# Altium integrated library TI Power Management Battery Management.IntLib: 949 symbols (part 51 of 62)
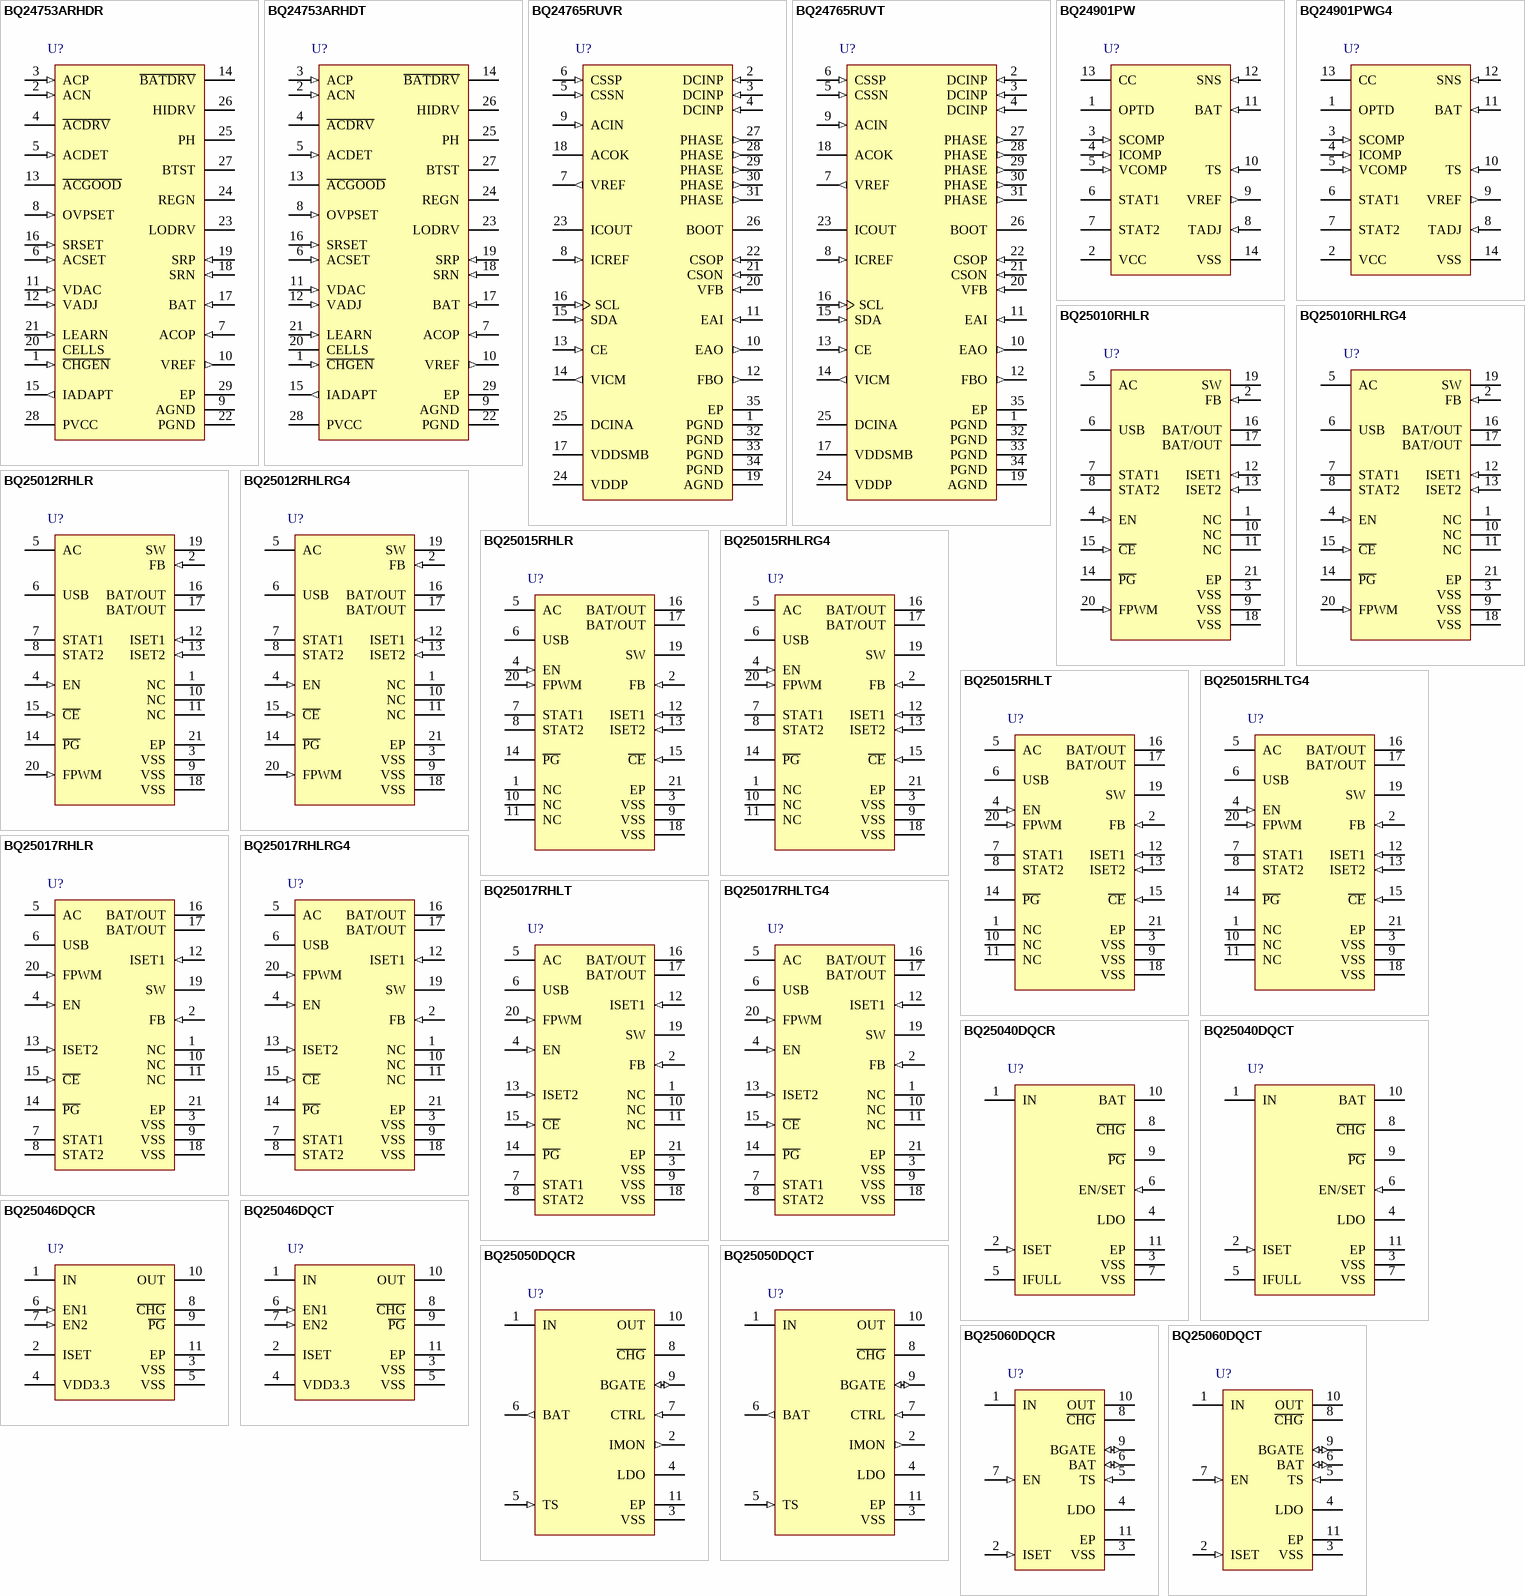
[diagram p84: symbols BQ24753ARHDR to BQ25060DQCT]

## BQ24765RUVR
designator U?
SMBus Controlled Battery Charger with Integrated FETs, 7 V, -40 to 155 degC, 34-pin VQFN (RUV), Green (RoHS & no Sb/Br); PartNumber: BQ24765RUVR; Manufacturer: Texas Instruments; Lead Acid: N; SubFamily: Battery Charge Management; Vin(Min)(V): 7; DatasheetVersion: SLUS999; PackageVersion: revA, Mar-2008; PackageReference: RUV34-5550X2050TP; PackageDescription: 34-Leads Plastic Quad Flatpack No-Lead, 3.5 x 7 x 0.9 mm Body, 0.5 mm Pitch, Exposed Pad; Supplier 1: Digi-Key; Supplier Part Number 1: BQ24765RUVR-ND; Supplier 2: Newark; Supplier Part Number 2: 55R2442; Supplier 3: Mouser; Supplier Part Number 3: 595-BQ24765RUVR; Eco-Plan: Green (RoHS & no Sb/Br); Li-Ion: N; Li-Polymer: N; NiCd: N; NiMH: N; Over Voltage Protection: N; Mounting Technology: Surface Mount; Code_JEDEC: MO-220; ComponentLink1Description: Datasheet; ComponentLink1URL: http://www.ti.com/general/docs/lit/getliterature.tsp?genericPartNumber=BQ24765&fileType=pdf
footprint RUV34-5550X2050TP (QFN, 34-Leads, Body 3.5x7mm, Pitch 0.5mm, Thermal Pad 2.05x5.55mm)
pins: 1 PGND (power) "Power ground. Connection to source of integrated low-side power MOSFET. On PCB layout, connect to ground connection of input and output capacitors of the charger. Only connect to AGND through the power-pad underneath the IC.", 2 DCINP (in) "High current input for IC power positive supply, and connection to drain of high-side power MOSFET. Place two 10uF ceramic capacitors from DCINP to PGND pin close to the IC.", 3 DCINP (in) "High current input for IC power positive supply, and connection to drain of high-side power MOSFET. Place two 10uF ceramic capacitors from DCINP to PGND pin close to the IC.", 4 DCINP (in) "High current input for IC power positive supply, and connection to drain of high-side power MOSFET. Place two 10uF ceramic capacitors from DCINP to PGND pin close to the IC.", 5 CSSN (in) "Adapter current sense resistor, negative input. An optional 0.1-uF ceramic capacitor is placed from CSSN pin to AGND for common-mode filtering. A 0.1-uF ceramic capacitor is placed from CSSN to CSSP to provide (See Datasheet)", 6 CSSP (in) "Adapter current sense resistor, positive input. A 0.1-uF ceramic capacitor is placed from CSSP pin to AGND for common-mode filtering. A 0.1-uF ceramic capacitor is placed from CSSN to CSSP to provide differential-mode (See Datasheet)", 7 VREF (out) "3.3V regulated voltage output. Place a 1uF ceramic capacitor from VREF to AGND pin close to the IC. This voltage could be used for programming the ICREF threshold. VREF can directly connect to VDDSMB as SMBus supply, or (See Datasheet)", 8 ICREF (in) "Low power voltage set input. Connect a resistor divider from VREF to ICREF, and AGND to program the reference for the LOPWR comparator. The ICREF pin voltage is compared to the VICM pin voltage and the logic output is given (See Datasheet)", 9 ACIN (in) "Adapter detected voltage set input. Program the adapter detect threshold by connecting a resistor divider from adapter input to ACIN pin to AGND pin. ACOK open-drain output is pulled high and charge is allowed when ACIN pin (See Datasheet)", 10 EAO (out) "Error Amplifier Output for compensation. Connect the feedback compensation components from EAO to EAI. Typically, a capacitor in parallel with a series resistor and capacitor. This node is internally compared to the PWM (See Datasheet)", 11 EAI (in) "Error Amplifier Input for compensation. Connect the feedback compensation components from EAI to EAO. Connect the input compensation from FBO to EAI.", 12 FBO (out) "Feedback Output for compensation. Connect the input compensation from FBO to EAI. Typically, a resistor in parallel with a series resistor and capacitor.", 13 CE (in) "Charge enable active-high logic input. HI enables charge. LO disables charge. Pull up CE using 10kOhm resistor or connect directly to VREF to enable charger.", 14 VICM (out) "Adapter current sense amplifier output. VICM voltage is 20 times the differential voltage across CSSP-CSSN. Place a 100pF (max) or less ceramic decoupling capacitor from VICM to AGND.", 15 SDA (in) "SMBus Data input. Connect to SMBus data line from the host controller. A 10-kohm pull-up resistor to the host controller power rail is needed.", 16 SCL (in) "SMBus Clock input. Connect to SMBus clock line from the host controller. A 10-kohm pull-up resistor to the host controller power rail is needed.", 17 VDDSMB (power) "Input voltage for SMBus logic. Connect a 3.3V always supply rail, or 5V always rail to VDDSMB pin. Connect a 0.1uF ceramic capacitor from VDDSMB to AGND for decoupling.", 18 ACOK (oc) "Valid adapter active-high detect logic open-drain output. Pulled HI when Input voltage is above ACIN programmed threshold and DCINA is above UVLO threshold. Connect a 10-kohm pull-up resistor from ACOK pin to pull-up supply (See Datasheet)", 19 AGND (power) "Analog Ground. On PCB layout, connect to the analog ground plane, and only connect to PGND through the power-pad underneath the IC.", 20 VFB (in) "Battery voltage remote sense. Directly connect a Kelvin sense trace from the battery pack positive terminal to the VFB pin to accurately sense the battery pack voltage. Place a 0.1-uF capacitor from VFB to AGND close to the (See Datasheet)", 21 CSON (in) "Charge current sense resistor, negative input. An optional 0.1-uF ceramic capacitor is placed from CSON pin to AGND for common-mode filtering. A 0.1-uF ceramic capacitor is placed from CSON to CSOP to provide (See Datasheet)", 22 CSOP (in) "Charge current sense resistor, positive input. A 0.1-uF ceramic capacitor is placed from CSOP pin to AGND for common mode filtering. A 0.1-uF ceramic capacitor is placed from CSON to CSOP to provide differential-mode (See Datasheet)", 23 ICOUT (oc) "Low power mode detect active-high open-drain logic output. Place a 10kohm pull-up resistor from ICOUT pin to the pull-up voltage rail. Place a positive feedback resistor from ICOUT pin to ICREF pin for programming hysteresis.(See Datasheet)", 24 VDDP (power) "PWM low side driver positive 6V supply output. Connect a 1uF ceramic capacitor from VDDP to PGND pin, close to the IC. Use for high-side driver bootstrap voltage by connecting a small signal Schottky diode from VDDP to BOOT.", 25 DCINA (power) "Analog sense of IC power positive supply for internal reference bias circuit. Connect directly to adapter input, or to diode-OR point of adapter and battery. Place a 20ohm and 0.5uF ceramic capacitor filter from adapter to (See Datasheet)", 26 BOOT (power) "PWM high side driver positive supply. Connect a 0.1uF bootstrap ceramic capacitor from BOOT to PHASE. Connect a small bootstrap Schottky diode from VDDP to BOOT.", 27 PHASE (out) "Phase switching node (junction of the integrated high-side power MOSFET source and the integrated low-side power MOSFET drain). Connect to the output inductor. Connect the 0.1uF bootstrap ceramic capacitor from PHASE to BOOT.", 28 PHASE (out) "Phase switching node (junction of the integrated high-side power MOSFET source and the integrated low-side power MOSFET drain). Connect to the output inductor. Connect the 0.1uF bootstrap ceramic capacitor from PHASE to BOOT.", 29 PHASE (out) "Phase switching node (junction of the integrated high-side power MOSFET source and the integrated low-side power MOSFET drain). Connect to the output inductor. Connect the 0.1uF bootstrap ceramic capacitor from PHASE to BOOT.", 30 PHASE (out) "Phase switching node (junction of the integrated high-side power MOSFET source and the integrated low-side power MOSFET drain). Connect to the output inductor. Connect the 0.1uF bootstrap ceramic capacitor from PHASE to BOOT.", 31 PHASE (out) "Phase switching node (junction of the integrated high-side power MOSFET source and the integrated low-side power MOSFET drain). Connect to the output inductor. Connect the 0.1uF bootstrap ceramic capacitor from PHASE to BOOT.", 32 PGND (power) "Power ground. Connection to source of integrated low-side power MOSFET. On PCB layout, connect to ground connection of in put and out put capacitors of the charger. Only connect to AGND through the power-pad underneath the (See Datasheet)", 33 PGND (power) "Power ground. Connection to source of integrated low-side power MOSFET. On PCB layout, connect to ground connection of in put and out put capacitors of the charger. Only connect to AGND through the power-pad underneath the (See Datasheet)", 34 PGND (power) "Power ground. Connection to source of integrated low-side power MOSFET. On PCB layout, connect to ground connection of in put and out put capacitors of the charger. Only connect to AGND through the power-pad underneath the (See Datasheet)", 35 EP (power) "Exposed pad beneath the IC. AGND and PGND star-connected only at the Power Pad plane. Always solder Power Pad to the board, and have vias on the Power Pad plane connecting to AGND and PGND planes. It also serves as a thermal (See Datasheet)"

## BQ24765RUVT
designator U?
SMBus Controlled Battery Charger with Integrated FETs, 7 V, -40 to 155 degC, 34-pin VQFN (RUV), Green (RoHS & no Sb/Br); PartNumber: BQ24765RUVT; Manufacturer: Texas Instruments; Lead Acid: N; SubFamily: Battery Charge Management; Vin(Min)(V): 7; DatasheetVersion: SLUS999; PackageVersion: revA, Mar-2008; PackageReference: RUV34-5550X2050TP; PackageDescription: 34-Leads Plastic Quad Flatpack No-Lead, 3.5 x 7 x 0.9 mm Body, 0.5 mm Pitch, Exposed Pad; Supplier 1: Digi-Key; Supplier Part Number 1: 296-25460-2-ND; Supplier 2: Digi-Key; Supplier Part Number 2: 296-25460-1-ND; Supplier 3: Digi-Key; Supplier Part Number 3: 296-25460-6-ND; Supplier 4: Newark; Supplier Part Number 4: 55R2443; Supplier 5: Mouser; Supplier Part Number 5: 595-BQ24765RUVT; Eco-Plan: Green (RoHS & no Sb/Br); Li-Ion: N; Li-Polymer: N; NiCd: N; NiMH: N; Over Voltage Protection: N; Mounting Technology: Surface Mount; Code_JEDEC: MO-220; ComponentLink1Description: Datasheet; ComponentLink1URL: http://www.ti.com/general/docs/lit/getliterature.tsp?genericPartNumber=BQ24765&fileType=pdf
footprint RUV34-5550X2050TP (QFN, 34-Leads, Body 3.5x7mm, Pitch 0.5mm, Thermal Pad 2.05x5.55mm)
pins: 1 PGND (power) "Power ground. Connection to source of integrated low-side power MOSFET. On PCB layout, connect to ground connection of input and output capacitors of the charger. Only connect to AGND through the power-pad underneath the IC.", 2 DCINP (in) "High current input for IC power positive supply, and connection to drain of high-side power MOSFET. Place two 10uF ceramic capacitors from DCINP to PGND pin close to the IC.", 3 DCINP (in) "High current input for IC power positive supply, and connection to drain of high-side power MOSFET. Place two 10uF ceramic capacitors from DCINP to PGND pin close to the IC.", 4 DCINP (in) "High current input for IC power positive supply, and connection to drain of high-side power MOSFET. Place two 10uF ceramic capacitors from DCINP to PGND pin close to the IC.", 5 CSSN (in) "Adapter current sense resistor, negative input. An optional 0.1-uF ceramic capacitor is placed from CSSN pin to AGND for common-mode filtering. A 0.1-uF ceramic capacitor is placed from CSSN to CSSP to provide (See Datasheet)", 6 CSSP (in) "Adapter current sense resistor, positive input. A 0.1-uF ceramic capacitor is placed from CSSP pin to AGND for common-mode filtering. A 0.1-uF ceramic capacitor is placed from CSSN to CSSP to provide differential-mode (See Datasheet)", 7 VREF (out) "3.3V regulated voltage output. Place a 1uF ceramic capacitor from VREF to AGND pin close to the IC. This voltage could be used for programming the ICREF threshold. VREF can directly connect to VDDSMB as SMBus supply, or (See Datasheet)", 8 ICREF (in) "Low power voltage set input. Connect a resistor divider from VREF to ICREF, and AGND to program the reference for the LOPWR comparator. The ICREF pin voltage is compared to the VICM pin voltage and the logic output is given (See Datasheet)", 9 ACIN (in) "Adapter detected voltage set input. Program the adapter detect threshold by connecting a resistor divider from adapter input to ACIN pin to AGND pin. ACOK open-drain output is pulled high and charge is allowed when ACIN pin (See Datasheet)", 10 EAO (out) "Error Amplifier Output for compensation. Connect the feedback compensation components from EAO to EAI. Typically, a capacitor in parallel with a series resistor and capacitor. This node is internally compared to the PWM (See Datasheet)", 11 EAI (in) "Error Amplifier Input for compensation. Connect the feedback compensation components from EAI to EAO. Connect the input compensation from FBO to EAI.", 12 FBO (out) "Feedback Output for compensation. Connect the input compensation from FBO to EAI. Typically, a resistor in parallel with a series resistor and capacitor.", 13 CE (in) "Charge enable active-high logic input. HI enables charge. LO disables charge. Pull up CE using 10kOhm resistor or connect directly to VREF to enable charger.", 14 VICM (out) "Adapter current sense amplifier output. VICM voltage is 20 times the differential voltage across CSSP-CSSN. Place a 100pF (max) or less ceramic decoupling capacitor from VICM to AGND.", 15 SDA (in) "SMBus Data input. Connect to SMBus data line from the host controller. A 10-kohm pull-up resistor to the host controller power rail is needed.", 16 SCL (in) "SMBus Clock input. Connect to SMBus clock line from the host controller. A 10-kohm pull-up resistor to the host controller power rail is needed.", 17 VDDSMB (power) "Input voltage for SMBus logic. Connect a 3.3V always supply rail, or 5V always rail to VDDSMB pin. Connect a 0.1uF ceramic capacitor from VDDSMB to AGND for decoupling.", 18 ACOK (oc) "Valid adapter active-high detect logic open-drain output. Pulled HI when Input voltage is above ACIN programmed threshold and DCINA is above UVLO threshold. Connect a 10-kohm pull-up resistor from ACOK pin to pull-up supply (See Datasheet)", 19 AGND (power) "Analog Ground. On PCB layout, connect to the analog ground plane, and only connect to PGND through the power-pad underneath the IC.", 20 VFB (in) "Battery voltage remote sense. Directly connect a Kelvin sense trace from the battery pack positive terminal to the VFB pin to accurately sense the battery pack voltage. Place a 0.1-uF capacitor from VFB to AGND close to the (See Datasheet)", 21 CSON (in) "Charge current sense resistor, negative input. An optional 0.1-uF ceramic capacitor is placed from CSON pin to AGND for common-mode filtering. A 0.1-uF ceramic capacitor is placed from CSON to CSOP to provide (See Datasheet)", 22 CSOP (in) "Charge current sense resistor, positive input. A 0.1-uF ceramic capacitor is placed from CSOP pin to AGND for common mode filtering. A 0.1-uF ceramic capacitor is placed from CSON to CSOP to provide differential-mode (See Datasheet)", 23 ICOUT (oc) "Low power mode detect active-high open-drain logic output. Place a 10kohm pull-up resistor from ICOUT pin to the pull-up voltage rail. Place a positive feedback resistor from ICOUT pin to ICREF pin for programming hysteresis.(See Datasheet)", 24 VDDP (power) "PWM low side driver positive 6V supply output. Connect a 1uF ceramic capacitor from VDDP to PGND pin, close to the IC. Use for high-side driver bootstrap voltage by connecting a small signal Schottky diode from VDDP to BOOT.", 25 DCINA (power) "Analog sense of IC power positive supply for internal reference bias circuit. Connect directly to adapter input, or to diode-OR point of adapter and battery. Place a 20ohm and 0.5uF ceramic capacitor filter from adapter to (See Datasheet)", 26 BOOT (power) "PWM high side driver positive supply. Connect a 0.1uF bootstrap ceramic capacitor from BOOT to PHASE. Connect a small bootstrap Schottky diode from VDDP to BOOT.", 27 PHASE (out) "Phase switching node (junction of the integrated high-side power MOSFET source and the integrated low-side power MOSFET drain). Connect to the output inductor. Connect the 0.1uF bootstrap ceramic capacitor from PHASE to BOOT.", 28 PHASE (out) "Phase switching node (junction of the integrated high-side power MOSFET source and the integrated low-side power MOSFET drain). Connect to the output inductor. Connect the 0.1uF bootstrap ceramic capacitor from PHASE to BOOT.", 29 PHASE (out) "Phase switching node (junction of the integrated high-side power MOSFET source and the integrated low-side power MOSFET drain). Connect to the output inductor. Connect the 0.1uF bootstrap ceramic capacitor from PHASE to BOOT.", 30 PHASE (out) "Phase switching node (junction of the integrated high-side power MOSFET source and the integrated low-side power MOSFET drain). Connect to the output inductor. Connect the 0.1uF bootstrap ceramic capacitor from PHASE to BOOT.", 31 PHASE (out) "Phase switching node (junction of the integrated high-side power MOSFET source and the integrated low-side power MOSFET drain). Connect to the output inductor. Connect the 0.1uF bootstrap ceramic capacitor from PHASE to BOOT.", 32 PGND (power) "Power ground. Connection to source of integrated low-side power MOSFET. On PCB layout, connect to ground connection of in put and out put capacitors of the charger. Only connect to AGND through the power-pad underneath the (See Datasheet)", 33 PGND (power) "Power ground. Connection to source of integrated low-side power MOSFET. On PCB layout, connect to ground connection of in put and out put capacitors of the charger. Only connect to AGND through the power-pad underneath the (See Datasheet)", 34 PGND (power) "Power ground. Connection to source of integrated low-side power MOSFET. On PCB layout, connect to ground connection of in put and out put capacitors of the charger. Only connect to AGND through the power-pad underneath the (See Datasheet)", 35 EP (power) "Exposed pad beneath the IC. AGND and PGND star-connected only at the Power Pad plane. Always solder Power Pad to the board, and have vias on the Power Pad plane connecting to AGND and PGND planes. It also serves as a thermal (See Datasheet)"

## BQ24901PW
designator U?
1-Cell Li-Ion Charger for Offline Applications (Primary-side Control) in TSSOP-14, 3 V, -20 to 85 degC, 14-pin TSSOP (PW); PartNumber: BQ24901PW; Manufacturer: Texas Instruments; Lead Acid: N; Li-Ion: Y; SubFamily: Battery Charge Management; Vin(Min)(V): 3; DatasheetVersion: SLUS527; PackageVersion: revG, Feb-2011; PackageReference: PW14; PackageDescription: 14-Pin Thin Small Outline Package 0.65 mm Pitch; Supplier 1: Digi-Key; Supplier Part Number 1: 296-14073-5-ND; Supplier 2: Farnell; Supplier Part Number 2: 1647902; Supplier 3: Newark; Supplier Part Number 3: 20H2738; Supplier 4: Mouser; Supplier Part Number 4: 595-BQ24901PW; Li-Polymer: Y; NiCd: N; NiMH: N; Over Voltage Protection: N; Mounting Technology: Surface Mount; Code_JEDEC: MO-153; ComponentLink1Description: Datasheet; ComponentLink1URL: http://www.ti.com/general/docs/lit/getliterature.tsp?genericPartNumber=BQ24901&fileType=pdf
footprint PW14_N (TSOP, 14-Leads, Body 5x4.4mm, Pitch 0.65mm, IPC Medium Density)
footprint PW14_L (TSOP, 14-Leads, Body 5x4.4mm, Pitch 0.65mm, IPC High Density)
footprint PW14_M (TSOP, 14-Leads, Body 5x4.4mm, Pitch 0.65mm, IPC Low Density)
pins: 1 OPTD (oc) "Optocoupler driver output. This open-collector output is used to provide feedback to the primary side by driving an external optocoupler.", 2 VCC (power) "VCC supply input.", 3 SCOMP (in) "Supply loop compensation. This is the compensation for the VCC supply regulation loop.", 4 ICOMP (in) "Current loop compensation. This is the compensation for the fast charge current regulation loop.", 5 VCOMP (in) "Voltage loop compensation. This is the compensation for the battery regulation loop.", 6 STAT1 (oc) "Charge status output 1 (open drain)", 7 STAT2 (oc) "Charge status output 2 (open drain)", 8 TADJ (in) "Termination adjust. This input is used to set the minimum current termination level during voltage regulation phase.", 9 VREF (out) "Voltage reference output. This buffered output provides the internal bandgap voltage.", 10 TS (in) "Temperature sense Input. Input for an external battery temperature monitoring.", 11 BAT (in) "Battery voltage sense input. This input is tied directly to the positive side of the battery pack.", 12 SNS (in) "Current sense input. Battery current is sensed via the voltage developed on this pin by an external sense resistor.", 13 CC (oc) "Charge control output. CC is an open-drain pulldown output that is used to drive an external pass transistor for charge current and voltage control.", 14 VSS (power) "Ground input."

## BQ24901PWG4
designator U?
1-Cell Li-Ion Charger for Offline Applications (Primary-side Control) in TSSOP-14, 3 V, -20 to 85 degC, 14-pin TSSOP (PW); PartNumber: BQ24901PWG4; Manufacturer: Texas Instruments; Lead Acid: N; Li-Ion: Y; SubFamily: Battery Charge Management; Vin(Min)(V): 3; DatasheetVersion: SLUS527; PackageVersion: revG, Feb-2011; PackageReference: PW14; PackageDescription: 14-Pin Thin Small Outline Package 0.65 mm Pitch; Supplier 1: Digi-Key; Supplier Part Number 1: BQ24901PWG4-ND; Supplier 2: Newark; Supplier Part Number 2: 02M9374; Supplier 3: Mouser; Supplier Part Number 3: 595-BQ24901PWG4; Li-Polymer: Y; NiCd: N; NiMH: N; Over Voltage Protection: N; Mounting Technology: Surface Mount; Code_JEDEC: MO-153; ComponentLink1Description: Datasheet; ComponentLink1URL: http://www.ti.com/general/docs/lit/getliterature.tsp?genericPartNumber=BQ24901&fileType=pdf
footprint PW14_N (TSOP, 14-Leads, Body 5x4.4mm, Pitch 0.65mm, IPC Medium Density)
footprint PW14_L (TSOP, 14-Leads, Body 5x4.4mm, Pitch 0.65mm, IPC High Density)
footprint PW14_M (TSOP, 14-Leads, Body 5x4.4mm, Pitch 0.65mm, IPC Low Density)
pins: 1 OPTD (oc) "Optocoupler driver output. This open-collector output is used to provide feedback to the primary side by driving an external optocoupler.", 2 VCC (power) "VCC supply input.", 3 SCOMP (in) "Supply loop compensation. This is the compensation for the VCC supply regulation loop.", 4 ICOMP (in) "Current loop compensation. This is the compensation for the fast charge current regulation loop.", 5 VCOMP (in) "Voltage loop compensation. This is the compensation for the battery regulation loop.", 6 STAT1 (oc) "Charge status output 1 (open drain)", 7 STAT2 (oc) "Charge status output 2 (open drain)", 8 TADJ (in) "Termination adjust. This input is used to set the minimum current termination level during voltage regulation phase.", 9 VREF (out) "Voltage reference output. This buffered output provides the internal bandgap voltage.", 10 TS (in) "Temperature sense Input. Input for an external battery temperature monitoring.", 11 BAT (in) "Battery voltage sense input. This input is tied directly to the positive side of the battery pack.", 12 SNS (in) "Current sense input. Battery current is sensed via the voltage developed on this pin by an external sense resistor.", 13 CC (oc) "Charge control output. CC is an open-drain pulldown output that is used to drive an external pass transistor for charge current and voltage control.", 14 VSS (power) "Ground input."

## BQ25010RHLR
designator U?
500 mA Li-Ion Charger with Integrated 150 mA Synchronous Buck Converter, Output Adjustable, 4.5 V, -40 to 85 degC, 20-pin QFN (RHL), Green (RoHS & no Sb/Br); PartNumber: BQ25010RHLR; Manufacturer: Texas Instruments; Lead Acid: N; Li-Ion: Y; SubFamily: Battery Charge Management; Vin(Min)(V): 4.5; DatasheetVersion: SLUS615B; PackageVersion: revJ, Dec-2011; PackageReference: RHL20-3050X2050TP; PackageDescription: 20-Leads Plastic Quad Flatpack No-Lead, 4.5 x 3.5 x 0.9 mm Body, 0.5 mm Pitch, Exposed Pad; Supplier 1: Digi-Key; Supplier Part Number 1: 296-17639-2-ND; Supplier 2: Digi-Key; Supplier Part Number 2: 296-17639-1-ND; Supplier 3: Digi-Key; Supplier Part Number 3: 296-17639-6-ND; Supplier 4: Newark; Supplier Part Number 4: 71J3427; Supplier 5: Mouser; Supplier Part Number 5: 595-BQ25010RHLR; Eco-Plan: Green (RoHS & no Sb/Br); Li-Polymer: N; NiCd: N; NiMH: N; Over Voltage Protection: N; Mounting Technology: Surface Mount; ComponentLink1Description: Datasheet; ComponentLink1URL: http://www.ti.com/general/docs/lit/getliterature.tsp?genericPartNumber=BQ25010&fileType=pdf
footprint RHL20-3050X2050TP (QFN, 20-Leads, Body 4.5x3.5mm, Pitch 0.5mm, Thermal Pad 3.05x2.05mm, TI Recommended)
pins: 1 NC "No connect. These pins must be left floating.", 2 FB (in) "Feedback pin for DC-DC converter", 3 VSS (power) "Ground Input. Also note that there is an internal electrical connection between the exposed thermal pad and VSS pins of the device. The exposed thermal pad must be connected to the same potential as the Vss pin on the (See Datasheet)", 4 EN (in) "Enable input for DC-DC converter (active high)", 5 AC (power) "Charge input voltage from AC adapter", 6 USB (power) "Charge input voltage from USB adapter", 7 STAT1 (oc) "Charge status output 1 (open-drain)", 8 STAT2 (oc) "Charge status output 2 (open-drain)", 9 VSS (power) "Ground Input. Also note that there is an internal electrical connection between the exposed thermal pad and VSS pins of the device. The exposed thermal pad must be connected to the same potential as the Vss pin on the (See Datasheet)", 10 NC "No connect. These pins must be left floating.", 11 NC "No connect. These pins must be left floating.", 12 ISET1 (in) "Charge current set point for AC input and precharge and taper set point for both AC and USB", 13 ISET2 (in) "Charge current set point for USB port (High = 500 mA, Low = 100 mA, High-Z = disable USB charge)", 14 ~{PG} (oc) "Power good status output (active low)", 15 ~{CE} (in) "Charge enable input (active low)", 16 BAT/OUT (power) "Charge current output", 17 BAT/OUT (power) "Battery input to DC-DC converter", 18 VSS (power) "Ground Input. Also note that there is an internal electrical connection between the exposed thermal pad and VSS pins of the device. The exposed thermal pad must be connected to the same potential as the Vss pin on the (See Datasheet)", 19 SW (power) "Phase node of the DC-DC converter", 20 FPWM (in) "PWM control input for the DC-DC converter. A high on FPWM = forced PWM mode. A low = power save mode.", 21 EP (power) "Exposed thermal pad"

## BQ25010RHLRG4
designator U?
500 mA Li-Ion Charger with Integrated 150 mA Synchronous Buck Converter, Output Adjustable, 4.5 V, -40 to 85 degC, 20-pin QFN (RHL), Green (RoHS & no Sb/Br); PartNumber: BQ25010RHLRG4; Manufacturer: Texas Instruments; Lead Acid: N; Li-Ion: Y; SubFamily: Battery Charge Management; Vin(Min)(V): 4.5; DatasheetVersion: SLUS615B; PackageVersion: revJ, Dec-2011; PackageReference: RHL20-3050X2050TP; PackageDescription: 20-Leads Plastic Quad Flatpack No-Lead, 4.5 x 3.5 x 0.9 mm Body, 0.5 mm Pitch, Exposed Pad; Supplier 1: Digi-Key; Supplier Part Number 1: BQ25010RHLRG4-ND; Supplier 2: Newark; Supplier Part Number 2: 24K4400; Supplier 3: Mouser; Supplier Part Number 3: 595-BQ25010RHLRG4; Eco-Plan: Green (RoHS & no Sb/Br); Li-Polymer: N; NiCd: N; NiMH: N; Over Voltage Protection: N; Mounting Technology: Surface Mount; ComponentLink1Description: Datasheet; ComponentLink1URL: http://www.ti.com/general/docs/lit/getliterature.tsp?genericPartNumber=BQ25010&fileType=pdf
footprint RHL20-3050X2050TP (QFN, 20-Leads, Body 4.5x3.5mm, Pitch 0.5mm, Thermal Pad 3.05x2.05mm, TI Recommended)
pins: 1 NC "No connect. These pins must be left floating.", 2 FB (in) "Feedback pin for DC-DC converter", 3 VSS (power) "Ground Input. Also note that there is an internal electrical connection between the exposed thermal pad and VSS pins of the device. The exposed thermal pad must be connected to the same potential as the Vss pin on the (See Datasheet)", 4 EN (in) "Enable input for DC-DC converter (active high)", 5 AC (power) "Charge input voltage from AC adapter", 6 USB (power) "Charge input voltage from USB adapter", 7 STAT1 (oc) "Charge status output 1 (open-drain)", 8 STAT2 (oc) "Charge status output 2 (open-drain)", 9 VSS (power) "Ground Input. Also note that there is an internal electrical connection between the exposed thermal pad and VSS pins of the device. The exposed thermal pad must be connected to the same potential as the Vss pin on the (See Datasheet)", 10 NC "No connect. These pins must be left floating.", 11 NC "No connect. These pins must be left floating.", 12 ISET1 (in) "Charge current set point for AC input and precharge and taper set point for both AC and USB", 13 ISET2 (in) "Charge current set point for USB port (High = 500 mA, Low = 100 mA, High-Z = disable USB charge)", 14 ~{PG} (oc) "Power good status output (active low)", 15 ~{CE} (in) "Charge enable input (active low)", 16 BAT/OUT (power) "Charge current output", 17 BAT/OUT (power) "Battery input to DC-DC converter", 18 VSS (power) "Ground Input. Also note that there is an internal electrical connection between the exposed thermal pad and VSS pins of the device. The exposed thermal pad must be connected to the same potential as the Vss pin on the (See Datasheet)", 19 SW (power) "Phase node of the DC-DC converter", 20 FPWM (in) "PWM control input for the DC-DC converter. A high on FPWM = forced PWM mode. A low = power save mode.", 21 EP (power) "Exposed thermal pad"

## BQ25012RHLR
designator U?
500 mA Li-Ion Charger with Integrated 150 mA Synchronous Buck Converter, Output 1.8 V, 4.5 V, -40 to 125 degC, 20-pin QFN (RHL), Green (RoHS & no Sb/Br); PartNumber: BQ25012RHLR; Manufacturer: Texas Instruments; Lead Acid: N; Li-Ion: Y; SubFamily: Battery Charge Management; Vin(Min)(V): 4.5; DatasheetVersion: SLUS615B; PackageVersion: revJ, Dec-2011; PackageReference: RHL20-3050X2050TP; PackageDescription: 20-Leads Plastic Quad Flatpack No-Lead, 4.5 x 3.5 x 0.9 mm Body, 0.5 mm Pitch, Exposed Pad; Supplier 1: Digi-Key; Supplier Part Number 1: 296-17804-2-ND; Supplier 2: Digi-Key; Supplier Part Number 2: 296-17804-1-ND; Supplier 3: Digi-Key; Supplier Part Number 3: 296-17804-6-ND; Supplier 4: Newark; Supplier Part Number 4: 24K4401; Supplier 5: Mouser; Supplier Part Number 5: 595-BQ25012RHLR; Eco-Plan: Green (RoHS & no Sb/Br); Li-Polymer: N; NiCd: N; NiMH: N; Over Voltage Protection: N; Mounting Technology: Surface Mount; ComponentLink1Description: Datasheet; ComponentLink1URL: http://www.ti.com/general/docs/lit/getliterature.tsp?genericPartNumber=BQ25012&fileType=pdf
footprint RHL20-3050X2050TP (QFN, 20-Leads, Body 4.5x3.5mm, Pitch 0.5mm, Thermal Pad 3.05x2.05mm, TI Recommended)
pins: 1 NC "No connect. These pins must be left floating.", 2 FB (in) "Feedback pin for DC-DC converter", 3 VSS (power) "Ground Input. Also note that there is an internal electrical connection between the exposed thermal pad and VSS pins of the device. The exposed thermal pad must be connected to the same potential as the Vss pin on the (See Datasheet)", 4 EN (in) "Enable input for DC-DC converter (active high)", 5 AC (power) "Charge input voltage from AC adapter", 6 USB (power) "Charge input voltage from USB adapter", 7 STAT1 (oc) "Charge status output 1 (open-drain)", 8 STAT2 (oc) "Charge status output 2 (open-drain)", 9 VSS (power) "Ground Input. Also note that there is an internal electrical connection between the exposed thermal pad and VSS pins of the device. The exposed thermal pad must be connected to the same potential as the Vss pin on the (See Datasheet)", 10 NC "No connect. These pins must be left floating.", 11 NC "No connect. These pins must be left floating.", 12 ISET1 (in) "Charge current set point for AC input and precharge and taper set point for both AC and USB", 13 ISET2 (in) "Charge current set point for USB port (High = 500 mA, Low = 100 mA, High-Z = disable USB charge)", 14 ~{PG} (oc) "Power good status output (active low)", 15 ~{CE} (in) "Charge enable input (active low)", 16 BAT/OUT (power) "Charge current output", 17 BAT/OUT (power) "Battery input to DC-DC converter", 18 VSS (power) "Ground Input. Also note that there is an internal electrical connection between the exposed thermal pad and VSS pins of the device. The exposed thermal pad must be connected to the same potential as the Vss pin on the (See Datasheet)", 19 SW (power) "Phase node of the DC-DC converter", 20 FPWM (in) "PWM control input for the DC-DC converter. A high on FPWM = forced PWM mode. A low = power save mode.", 21 EP (power) "Exposed thermal pad"

## BQ25012RHLRG4
designator U?
500 mA Li-Ion Charger with Integrated 150 mA Synchronous Buck Converter, Output 1.8 V, 4.5 V, -40 to 125 degC, 20-pin QFN (RHL), Green (RoHS & no Sb/Br); PartNumber: BQ25012RHLRG4; Manufacturer: Texas Instruments; Lead Acid: N; Li-Ion: Y; SubFamily: Battery Charge Management; Vin(Min)(V): 4.5; DatasheetVersion: SLUS615B; PackageVersion: revJ, Dec-2011; PackageReference: RHL20-3050X2050TP; PackageDescription: 20-Leads Plastic Quad Flatpack No-Lead, 4.5 x 3.5 x 0.9 mm Body, 0.5 mm Pitch, Exposed Pad; Supplier 1: Digi-Key; Supplier Part Number 1: BQ25012RHLRG4-ND; Supplier 2: Newark; Supplier Part Number 2: 24K4402; Supplier 3: Mouser; Supplier Part Number 3: 595-BQ25012RHLRG4; Eco-Plan: Green (RoHS & no Sb/Br); Li-Polymer: N; NiCd: N; NiMH: N; Over Voltage Protection: N; Mounting Technology: Surface Mount; ComponentLink1Description: Datasheet; ComponentLink1URL: http://www.ti.com/general/docs/lit/getliterature.tsp?genericPartNumber=BQ25012&fileType=pdf
footprint RHL20-3050X2050TP (QFN, 20-Leads, Body 4.5x3.5mm, Pitch 0.5mm, Thermal Pad 3.05x2.05mm, TI Recommended)
pins: 1 NC "No connect. These pins must be left floating.", 2 FB (in) "Feedback pin for DC-DC converter", 3 VSS (power) "Ground Input. Also note that there is an internal electrical connection between the exposed thermal pad and VSS pins of the device. The exposed thermal pad must be connected to the same potential as the Vss pin on the (See Datasheet)", 4 EN (in) "Enable input for DC-DC converter (active high)", 5 AC (power) "Charge input voltage from AC adapter", 6 USB (power) "Charge input voltage from USB adapter", 7 STAT1 (oc) "Charge status output 1 (open-drain)", 8 STAT2 (oc) "Charge status output 2 (open-drain)", 9 VSS (power) "Ground Input. Also note that there is an internal electrical connection between the exposed thermal pad and VSS pins of the device. The exposed thermal pad must be connected to the same potential as the Vss pin on the (See Datasheet)", 10 NC "No connect. These pins must be left floating.", 11 NC "No connect. These pins must be left floating.", 12 ISET1 (in) "Charge current set point for AC input and precharge and taper set point for both AC and USB", 13 ISET2 (in) "Charge current set point for USB port (High = 500 mA, Low = 100 mA, High-Z = disable USB charge)", 14 ~{PG} (oc) "Power good status output (active low)", 15 ~{CE} (in) "Charge enable input (active low)", 16 BAT/OUT (power) "Charge current output", 17 BAT/OUT (power) "Battery input to DC-DC converter", 18 VSS (power) "Ground Input. Also note that there is an internal electrical connection between the exposed thermal pad and VSS pins of the device. The exposed thermal pad must be connected to the same potential as the Vss pin on the (See Datasheet)", 19 SW (power) "Phase node of the DC-DC converter", 20 FPWM (in) "PWM control input for the DC-DC converter. A high on FPWM = forced PWM mode. A low = power save mode.", 21 EP (power) "Exposed thermal pad"

## BQ25015RHLR
designator U?
Dual Input Charger with Integrated Synchronous Buck Converter, Output Adjustable, 4.5 V, -40 to 125 degC, 20-pin QFN (RHL), Green (RoHS & no Sb/Br); PartNumber: BQ25015RHLR; Manufacturer: Texas Instruments; Lead Acid: N; Li-Ion: Y; SubFamily: Battery Charge Management; Vin(Min)(V): 4.5; DatasheetVersion: SLUS721A; PackageVersion: revJ, Dec-2011; PackageReference: RHL20-3050X2050TP; PackageDescription: 20-Leads Plastic Quad Flatpack No-Lead, 4.5 x 3.5 x 0.9 mm Body, 0.5 mm Pitch, Exposed Pad; Supplier 1: Digi-Key; Supplier Part Number 1: 296-21510-2-ND; Supplier 2: Digi-Key; Supplier Part Number 2: 296-21510-1-ND; Supplier 3: Digi-Key; Supplier Part Number 3: 296-21510-6-ND; Supplier 4: Newark; Supplier Part Number 4: 30M3428; Supplier 5: Mouser; Supplier Part Number 5: 595-BQ25015RHLR; Eco-Plan: Green (RoHS & no Sb/Br); Li-Polymer: Y; NiCd: N; NiMH: N; Over Voltage Protection: N; Mounting Technology: Surface Mount; ComponentLink1Description: Datasheet; ComponentLink1URL: http://www.ti.com/general/docs/lit/getliterature.tsp?genericPartNumber=BQ25015&fileType=pdf
footprint RHL20-3050X2050TP (QFN, 20-Leads, Body 4.5x3.5mm, Pitch 0.5mm, Thermal Pad 3.05x2.05mm, TI Recommended)
pins: 1 NC "No connect. These pins must be left floating.", 2 FB (in) "Feedback pin for DC-DC converter;connect to voltage divider for bq25015", 3 VSS (power) "Ground Input. Also note that there is an internal electrical connection between the exposed thermal pad and VSS pins of the device. The exposed thermal pad must be connected to the same potential as the Vss pin on the (See Datasheet)", 4 EN (in) "Enable input for DC-DC converter; EN=HIGH for device enable", 5 AC (power) "Charge input voltage from AC adapter, connect 10 uF capacitor to ground", 6 USB (power) "Charge input voltage from USB adapter; connect to 10 uF capacitor to ground", 7 STAT1 (oc) "Charge status output 1 (open-drain)", 8 STAT2 (oc) "Charge status output 2 (open-drain)", 9 VSS (power) "Ground Input. Also note that there is an internal electrical connection between the exposed thermal pad and VSS pins of the device. The exposed thermal pad must be connected to the same potential as the Vss pin on the (See Datasheet)", 10 NC "No connect. These pins must be left floating.", 11 NC "No connect. These pins must be left floating.", 12 ISET1 (in) "Charge current set point for AC input and precharge and taper set point for both AC and USB", 13 ISET2 (in) "Charge current set point for USB port (High = 500 mA, Low = 100 mA, High-Z = disable USB charge)", 14 ~{PG} (oc) "Power good status output (active low, open-drain)", 15 ~{CE} (in) "Charge enable input (active low)", 16 BAT/OUT (power) "Charge current output", 17 BAT/OUT (power) "Battery input to DC-DC converter", 18 VSS (power) "Ground Input. Also note that there is an internal electrical connection between the exposed thermal pad and VSS pins of the device. The exposed thermal pad must be connected to the same potential as the Vss pin on the (See Datasheet)", 19 SW (power) "Phase node of the DC/DC converter; connect series inductor and capacitor to ground", 20 FPWM (in) "PWM control input for the DC-DC converter. A high on FPWM = forced PWM mode. A low = power save mode.", 21 EP (power) "exposed pad"

## BQ25015RHLRG4
designator U?
Dual Input Charger with Integrated Synchronous Buck Converter, Output Adjustable, 4.5 V, -40 to 125 degC, 20-pin QFN (RHL), Green (RoHS & no Sb/Br); PartNumber: BQ25015RHLRG4; Manufacturer: Texas Instruments; Lead Acid: N; Li-Ion: Y; SubFamily: Battery Charge Management; Vin(Min)(V): 4.5; DatasheetVersion: SLUS721A; PackageVersion: revJ, Dec-2011; PackageReference: RHL20-3050X2050TP; PackageDescription: 20-Leads Plastic Quad Flatpack No-Lead, 4.5 x 3.5 x 0.9 mm Body, 0.5 mm Pitch, Exposed Pad; Supplier 1: Digi-Key; Supplier Part Number 1: BQ25015RHLRG4-ND; Supplier 2: Newark; Supplier Part Number 2: 30M3429; Supplier 3: Mouser; Supplier Part Number 3: 595-BQ25015RHLRG4; Eco-Plan: Green (RoHS & no Sb/Br); Li-Polymer: Y; NiCd: N; NiMH: N; Over Voltage Protection: N; Mounting Technology: Surface Mount; ComponentLink1Description: Datasheet; ComponentLink1URL: http://www.ti.com/general/docs/lit/getliterature.tsp?genericPartNumber=BQ25015&fileType=pdf
footprint RHL20-3050X2050TP (QFN, 20-Leads, Body 4.5x3.5mm, Pitch 0.5mm, Thermal Pad 3.05x2.05mm, TI Recommended)
pins: 1 NC "No connect. These pins must be left floating.", 2 FB (in) "Feedback pin for DC-DC converter;connect to voltage divider for bq25015", 3 VSS (power) "Ground Input. Also note that there is an internal electrical connection between the exposed thermal pad and VSS pins of the device. The exposed thermal pad must be connected to the same potential as the Vss pin on the (See Datasheet)", 4 EN (in) "Enable input for DC-DC converter; EN=HIGH for device enable", 5 AC (power) "Charge input voltage from AC adapter, connect 10 uF capacitor to ground", 6 USB (power) "Charge input voltage from USB adapter; connect to 10 uF capacitor to ground", 7 STAT1 (oc) "Charge status output 1 (open-drain)", 8 STAT2 (oc) "Charge status output 2 (open-drain)", 9 VSS (power) "Ground Input. Also note that there is an internal electrical connection between the exposed thermal pad and VSS pins of the device. The exposed thermal pad must be connected to the same potential as the Vss pin on the (See Datasheet)", 10 NC "No connect. These pins must be left floating.", 11 NC "No connect. These pins must be left floating.", 12 ISET1 (in) "Charge current set point for AC input and precharge and taper set point for both AC and USB", 13 ISET2 (in) "Charge current set point for USB port (High = 500 mA, Low = 100 mA, High-Z = disable USB charge)", 14 ~{PG} (oc) "Power good status output (active low, open-drain)", 15 ~{CE} (in) "Charge enable input (active low)", 16 BAT/OUT (power) "Charge current output", 17 BAT/OUT (power) "Battery input to DC-DC converter", 18 VSS (power) "Ground Input. Also note that there is an internal electrical connection between the exposed thermal pad and VSS pins of the device. The exposed thermal pad must be connected to the same potential as the Vss pin on the (See Datasheet)", 19 SW (power) "Phase node of the DC/DC converter; connect series inductor and capacitor to ground", 20 FPWM (in) "PWM control input for the DC-DC converter. A high on FPWM = forced PWM mode. A low = power save mode.", 21 EP (power) "exposed pad"

## BQ25015RHLT
designator U?
Dual Input Charger with Integrated Synchronous Buck Converter, Output Adjustable, 4.5 V, -40 to 125 degC, 20-pin QFN (RHL), Green (RoHS & no Sb/Br); PartNumber: BQ25015RHLT; Manufacturer: Texas Instruments; Lead Acid: N; Li-Ion: Y; SubFamily: Battery Charge Management; Vin(Min)(V): 4.5; DatasheetVersion: SLUS721A; PackageVersion: revJ, Dec-2011; PackageReference: RHL20-3050X2050TP; PackageDescription: 20-Leads Plastic Quad Flatpack No-Lead, 4.5 x 3.5 x 0.9 mm Body, 0.5 mm Pitch, Exposed Pad; Supplier 1: Digi-Key; Supplier Part Number 1: 296-32034-2-ND; Supplier 2: Digi-Key; Supplier Part Number 2: 296-32034-1-ND; Supplier 3: Digi-Key; Supplier Part Number 3: 296-32034-6-ND; Supplier 4: Farnell; Supplier Part Number 4: 1647903; Supplier 5: Newark; Supplier Part Number 5: 30M0610; Supplier 6: Mouser; Supplier Part Number 6: 595-BQ25015RHLT; Eco-Plan: Green (RoHS & no Sb/Br); Li-Polymer: Y; NiCd: N; NiMH: N; Over Voltage Protection: N; Mounting Technology: Surface Mount; ComponentLink1Description: Datasheet; ComponentLink1URL: http://www.ti.com/general/docs/lit/getliterature.tsp?genericPartNumber=BQ25015&fileType=pdf
footprint RHL20-3050X2050TP (QFN, 20-Leads, Body 4.5x3.5mm, Pitch 0.5mm, Thermal Pad 3.05x2.05mm, TI Recommended)
pins: 1 NC "No connect. These pins must be left floating.", 2 FB (in) "Feedback pin for DC-DC converter;connect to voltage divider for bq25015", 3 VSS (power) "Ground Input. Also note that there is an internal electrical connection between the exposed thermal pad and VSS pins of the device. The exposed thermal pad must be connected to the same potential as the Vss pin on the (See Datasheet)", 4 EN (in) "Enable input for DC-DC converter; EN=HIGH for device enable", 5 AC (power) "Charge input voltage from AC adapter, connect 10 uF capacitor to ground", 6 USB (power) "Charge input voltage from USB adapter; connect to 10 uF capacitor to ground", 7 STAT1 (oc) "Charge status output 1 (open-drain)", 8 STAT2 (oc) "Charge status output 2 (open-drain)", 9 VSS (power) "Ground Input. Also note that there is an internal electrical connection between the exposed thermal pad and VSS pins of the device. The exposed thermal pad must be connected to the same potential as the Vss pin on the (See Datasheet)", 10 NC "No connect. These pins must be left floating.", 11 NC "No connect. These pins must be left floating.", 12 ISET1 (in) "Charge current set point for AC input and precharge and taper set point for both AC and USB", 13 ISET2 (in) "Charge current set point for USB port (High = 500 mA, Low = 100 mA, High-Z = disable USB charge)", 14 ~{PG} (oc) "Power good status output (active low, open-drain)", 15 ~{CE} (in) "Charge enable input (active low)", 16 BAT/OUT (power) "Charge current output", 17 BAT/OUT (power) "Battery input to DC-DC converter", 18 VSS (power) "Ground Input. Also note that there is an internal electrical connection between the exposed thermal pad and VSS pins of the device. The exposed thermal pad must be connected to the same potential as the Vss pin on the (See Datasheet)", 19 SW (power) "Phase node of the DC/DC converter; connect series inductor and capacitor to ground", 20 FPWM (in) "PWM control input for the DC-DC converter. A high on FPWM = forced PWM mode. A low = power save mode.", 21 EP (power) "exposed pad"

## BQ25015RHLTG4
designator U?
Dual Input Charger with Integrated Synchronous Buck Converter, Output Adjustable, 4.5 V, -40 to 125 degC, 20-pin QFN (RHL), Green (RoHS & no Sb/Br); PartNumber: BQ25015RHLTG4; Manufacturer: Texas Instruments; Lead Acid: N; Li-Ion: Y; SubFamily: Battery Charge Management; Vin(Min)(V): 4.5; DatasheetVersion: SLUS721A; PackageVersion: revJ, Dec-2011; PackageReference: RHL20-3050X2050TP; PackageDescription: 20-Leads Plastic Quad Flatpack No-Lead, 4.5 x 3.5 x 0.9 mm Body, 0.5 mm Pitch, Exposed Pad; Supplier 1: Digi-Key; Supplier Part Number 1: BQ25015RHLTG4-ND; Supplier 2: Newark; Supplier Part Number 2: 30M0611; Supplier 3: Mouser; Supplier Part Number 3: 595-BQ25015RHLTG4; Eco-Plan: Green (RoHS & no Sb/Br); Li-Polymer: Y; NiCd: N; NiMH: N; Over Voltage Protection: N; Mounting Technology: Surface Mount; ComponentLink1Description: Datasheet; ComponentLink1URL: http://www.ti.com/general/docs/lit/getliterature.tsp?genericPartNumber=BQ25015&fileType=pdf
footprint RHL20-3050X2050TP (QFN, 20-Leads, Body 4.5x3.5mm, Pitch 0.5mm, Thermal Pad 3.05x2.05mm, TI Recommended)
pins: 1 NC "No connect. These pins must be left floating.", 2 FB (in) "Feedback pin for DC-DC converter;connect to voltage divider for bq25015", 3 VSS (power) "Ground Input. Also note that there is an internal electrical connection between the exposed thermal pad and VSS pins of the device. The exposed thermal pad must be connected to the same potential as the Vss pin on the (See Datasheet)", 4 EN (in) "Enable input for DC-DC converter; EN=HIGH for device enable", 5 AC (power) "Charge input voltage from AC adapter, connect 10 uF capacitor to ground", 6 USB (power) "Charge input voltage from USB adapter; connect to 10 uF capacitor to ground", 7 STAT1 (oc) "Charge status output 1 (open-drain)", 8 STAT2 (oc) "Charge status output 2 (open-drain)", 9 VSS (power) "Ground Input. Also note that there is an internal electrical connection between the exposed thermal pad and VSS pins of the device. The exposed thermal pad must be connected to the same potential as the Vss pin on the (See Datasheet)", 10 NC "No connect. These pins must be left floating.", 11 NC "No connect. These pins must be left floating.", 12 ISET1 (in) "Charge current set point for AC input and precharge and taper set point for both AC and USB", 13 ISET2 (in) "Charge current set point for USB port (High = 500 mA, Low = 100 mA, High-Z = disable USB charge)", 14 ~{PG} (oc) "Power good status output (active low, open-drain)", 15 ~{CE} (in) "Charge enable input (active low)", 16 BAT/OUT (power) "Charge current output", 17 BAT/OUT (power) "Battery input to DC-DC converter", 18 VSS (power) "Ground Input. Also note that there is an internal electrical connection between the exposed thermal pad and VSS pins of the device. The exposed thermal pad must be connected to the same potential as the Vss pin on the (See Datasheet)", 19 SW (power) "Phase node of the DC/DC converter; connect series inductor and capacitor to ground", 20 FPWM (in) "PWM control input for the DC-DC converter. A high on FPWM = forced PWM mode. A low = power save mode.", 21 EP (power) "exposed pad"